# EAGLE library part LOGIC,TRANSLATOR:MC100EPT21(PECL-TTL) (library QuantumOptics)
MC100EPT21, On Semi, PECL to TTL translator, +3.3V, 1.4nS. http://www.onsemi.com/pub/Collateral/MC100EPT21-D.PDF
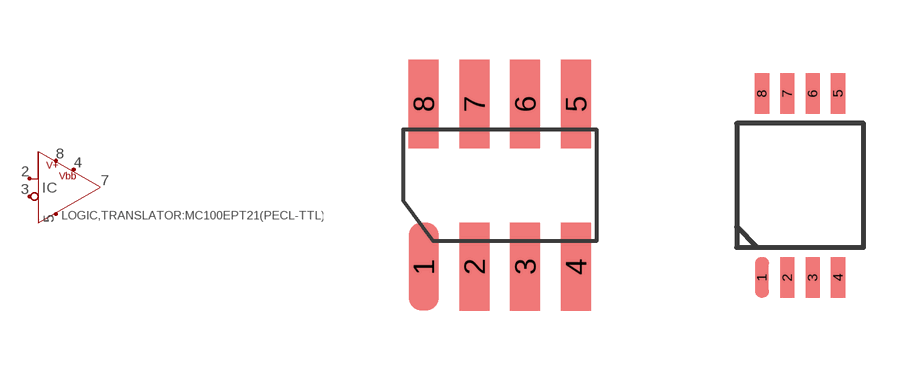
[diagram p43: symbol with the pads of SOIC-8; footprints SOIC-8, TSSOP-8]

Designator prefix IC

## LOGIC,TRANSLATOR:MC100EPT21(PECL-TTL)D  [SOIC-8]
2  +IN  in
3  -IN  in
4  VBB  nc
5  COM  in
7  Q  out
8  VCC  in

## LOGIC,TRANSLATOR:MC100EPT21(PECL-TTL)DT  [TSSOP-8]
Pads as for SOIC-8

## Footprint SOIC-8 (pad centres in mm)
SOIC-8 (AKA SO-8), pads on 0.050" grid.
smd 0.75 x 2.2: 1 -1.905,-2.032; 2 -0.635,-2.032; 3 0.635,-2.032; 4 1.905,-2.032; 5 1.905,2.032; 6 0.635,2.032; 7 -0.635,2.032; 8 -1.905,2.032

## Footprint TSSOP-8 (pad centres in mm)
TSSOP-8, use 0.025" grid. Metric device but fits well on imperial.
smd 0.356 x 1.016: 1 -1.02,-2.3; 2 -0.385,-2.3; 3 0.25,-2.3; 4 0.885,-2.3; 5 0.885,2.3; 6 0.25,2.3; 7 -0.385,2.3; 8 -1.02,2.3